# EAGLE library part PCA9410 (library mille-feuille)
PCA9410 - 3.0 MHz, 500 mA, DC-to-DC boost converter
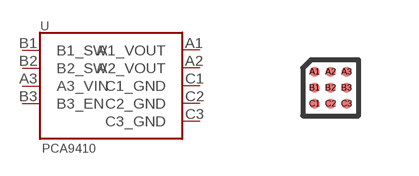
[diagram p45: symbol with the pads of WLCSP9; footprint WLCSP9]

Designator prefix U

## PCA9410  [WLCSP9]
A1  A1_VOUT
A2  A2_VOUT
A3  A3_VIN
B1  B1_SW
B2  B2_SW
B3  B3_EN
C1  C1_GND
C2  C2_GND
C3  C3_GND

## Footprint WLCSP9 (pad centres in mm)
smd 0.24 x 0.24: A1 -0.4,0.4; A2 0,0.4; A3 0.4,0.4; B1 -0.4,0; B2 0,0; B3 0.4,0; C1 -0.4,-0.4; C2 0,-0.4; C3 0.4,-0.4